# EAGLE library part ETX-X1 (library NU32PIC)
PCI-Bus, USB, Audio ETX Board Connector 100 Pos. Source: www.kontron.com/techlib/whitepapers/etx_spec.pdf
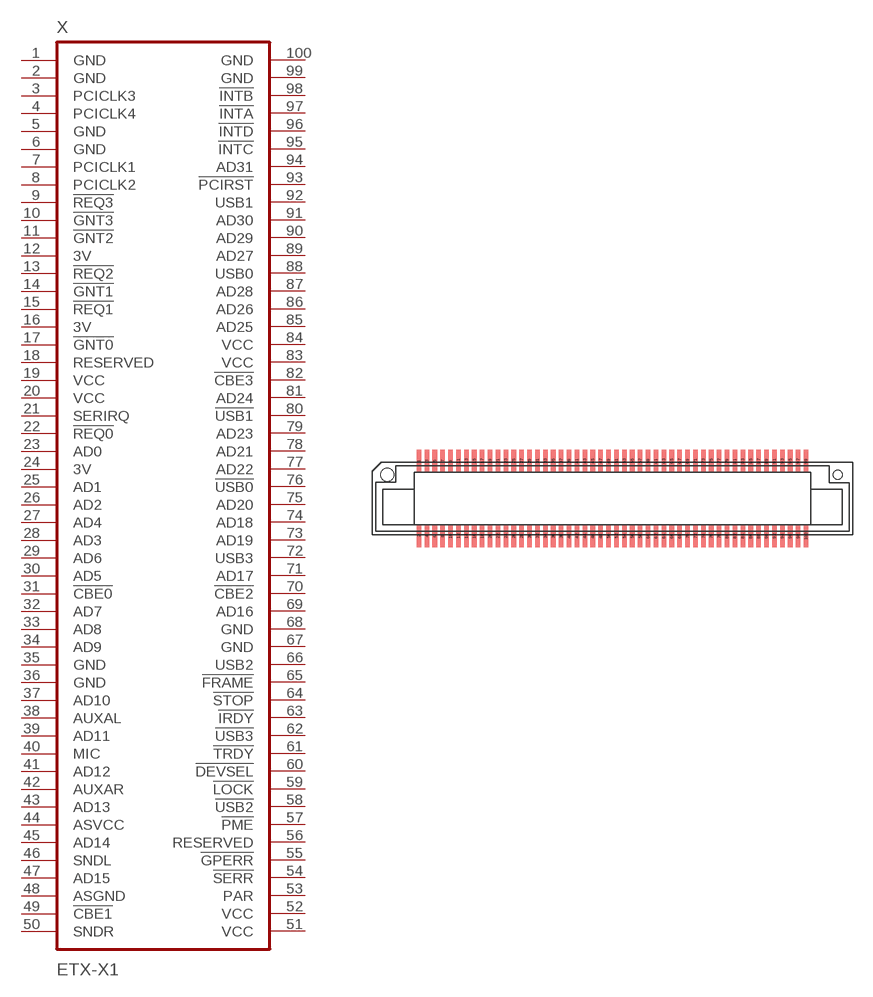
[diagram p0: symbol with the pads of FX8-100S-SV; footprint FX8-100S-SV]

Designator prefix X

## ETX-X1  [FX8-100S-SV]
1  GND  pwr
2  GND  pwr
3  PCICLK3
4  PCICLK4
5  GND  pwr
6  GND  pwr
7  PCICLK1
8  PCICLK2
9  !REQ3
10  !GNT3
11  !GNT2
12  3V  pwr
13  !REQ2
14  !GNT1
15  !REQ1
16  3V  pwr
17  !GNT0
18  RESERVED
19  VCC  pwr
20  VCC  pwr
21  SERIRQ
22  !REQ0
23  AD0
24  3V  pwr
25  AD1
26  AD2
27  AD4
28  AD3
29  AD6
30  AD5
31  !CBE0
32  AD7
33  AD8
34  AD9
35  GND  pwr
36  GND
37  AD10
38  AUXAL
39  AD11
40  MIC
41  AD12
42  AUXAR
43  AD13
44  ASVCC  pwr
45  AD14
46  SNDL
47  AD15
48  ASGND  pwr
49  !CBE1
50  SNDR
51  VCC  pwr
52  VCC  pwr
53  PAR
54  !SERR
55  !GPERR
56  RESERVED
57  !PME
58  !USB2
59  !LOCK
60  !DEVSEL
61  !TRDY
62  !USB3
63  !IRDY
64  !STOP
65  !FRAME
66  USB2
67  GND  pwr
68  GND  pwr
69  AD16
70  !CBE2
71  AD17
72  USB3
73  AD19
74  AD18
75  AD20
76  !USB0
77  AD22
78  AD21
79  AD23
80  !USB1
81  AD24
82  !CBE3
83  VCC  pwr
84  VCC  pwr
85  AD25
86  AD26
87  AD28
88  USB0
89  AD27
90  AD29
91  AD30
92  USB1
93  !PCIRST
94  AD31
95  !INTC
96  !INTD
97  !INTA
98  !INTB
99  GND  pwr
100  GND  pwr

## Footprint FX8-100S-SV (pad centres in mm)
HIROSE - ETX Board Connector 100 Pos. Source: www.hirose.co.jp/cataloge_hp/e57800016.pdf www.kontron.com/techlib/whitepapers/etx_spec.pdf
smd 0.35 x 1.7: 1 -14.7,2.85; 2 -14.7,-2.85; 3 -14.1,2.85; 4 -14.1,-2.85; 5 -13.5,2.85; 6 -13.5,-2.85; 7 -12.9,2.85; 8 -12.9,-2.85; 9 -12.3,2.85; 10 -12.3,-2.85; 11 -11.7,2.85; 12 -11.7,-2.85; 13 -11.1,2.85; 14 -11.1,-2.85; 15 -10.5,2.85; 16 -10.5,-2.85; 17 -9.9,2.85; 18 -9.9,-2.85; 19 -9.3,2.85; 20 -9.3,-2.85; 21 -8.7,2.85; 22 -8.7,-2.85; 23 -8.1,2.85; 24 -8.1,-2.85; 25 -7.5,2.85; 26 -7.5,-2.85; 27 -6.9,2.85; 28 -6.9,-2.85; 29 -6.3,2.85; 30 -6.3,-2.85; 31 -5.7,2.85; 32 -5.7,-2.85; 33 -5.1,2.85; 34 -5.1,-2.85; 35 -4.5,2.85; 36 -4.5,-2.85; 37 -3.9,2.85; 38 -3.9,-2.85; 39 -3.3,2.85; 40 -3.3,-2.85; 41 -2.7,2.85; 42 -2.7,-2.85; 43 -2.1,2.85; 44 -2.1,-2.85; 45 -1.5,2.85; 46 -1.5,-2.85; 47 -0.9,2.85; 48 -0.9,-2.85; 49 -0.3,2.85; 50 -0.3,-2.85; 51 0.3,2.85; 52 0.3,-2.85; 53 0.9,2.85; 54 0.9,-2.85; 55 1.5,2.85; 56 1.5,-2.85; 57 2.1,2.85; 58 2.1,-2.85; 59 2.7,2.85; 60 2.7,-2.85; 61 3.3,2.85; 62 3.3,-2.85; 63 3.9,2.85; 64 3.9,-2.85; 65 4.5,2.85; 66 4.5,-2.85; 67 5.1,2.85; 68 5.1,-2.85; 69 5.7,2.85; 70 5.7,-2.85; 71 6.3,2.85; 72 6.3,-2.85; 73 6.9,2.85; 74 6.9,-2.85; 75 7.5,2.85; 76 7.5,-2.85; 77 8.1,2.85; 78 8.1,-2.85; 79 8.7,2.85; 80 8.7,-2.85; 81 9.3,2.85; 82 9.3,-2.85; 83 9.9,2.85; 84 9.9,-2.85; 85 10.5,2.85; 86 10.5,-2.85; 87 11.1,2.85; 88 11.1,-2.85; 89 11.7,2.85; 90 11.7,-2.85; 91 12.3,2.85; 92 12.3,-2.85; 93 12.9,2.85; 94 12.9,-2.85; 95 13.5,2.85; 96 13.5,-2.85; 97 14.1,2.85; 98 14.1,-2.85; 99 14.7,2.85; 100 14.7,-2.85
hole 1 at -17.1,1.8
hole 0.7 at 17.1,1.8